# EAGLE library part MJACK8P8C (library wavemeter)
Vertical Plastic 8P8C Modular Jack w/ Ears (Ethernet Jacks - Wurth Electronics - 615008144221)
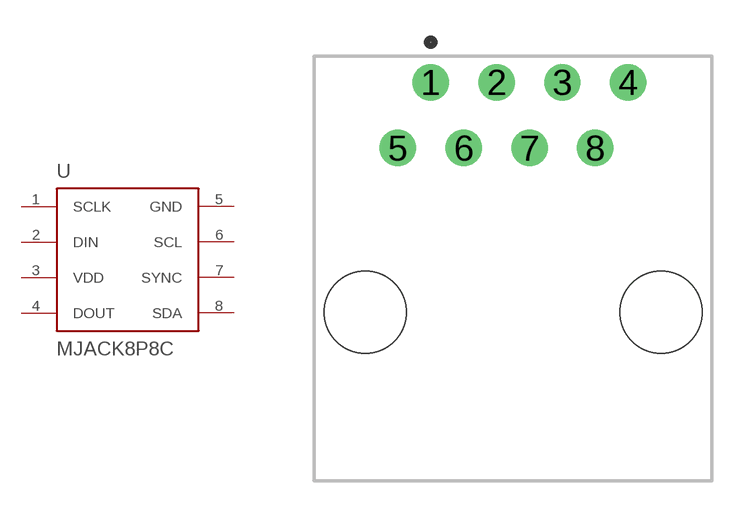
[diagram p1: symbol with the pads of MJACK8P8C; footprint MJACK8P8C]

Designator prefix -

## MJACK8P8CVERT  [MJACK8P8C]
1  SCLK
2  DIN
3  VDD
4  DOUT
5  GND
6  SCL
7  SYNC
8  SDA

## Footprint MJACK8P8C (pad centres in mm)
Rectangular outline in TDOCU layer is the boundary of the plastic casing for the jack
drill 0.9: 1 -3.175,5.649; 2 -0.635,5.649; 3 1.905,5.649; 4 4.445,5.649; 5 -4.445,3.109; 6 -1.905,3.109; 7 0.635,3.109; 8 3.175,3.109
hole 3.17 at -5.715,-3.241
hole 3.17 at 5.715,-3.241